# Altium footprint library PcbLib1.PcbLib: 2 footprints
Each footprint in its own frame and in the unit in brackets; x right, y up, seen from the top. Pads: shape width x height; smd on the part's side, far side on the other; paste and mask are expansions set on the pad; w line width, h text height; cw(c..) or ccw(c..) is an arc to the next point about the centre after c.
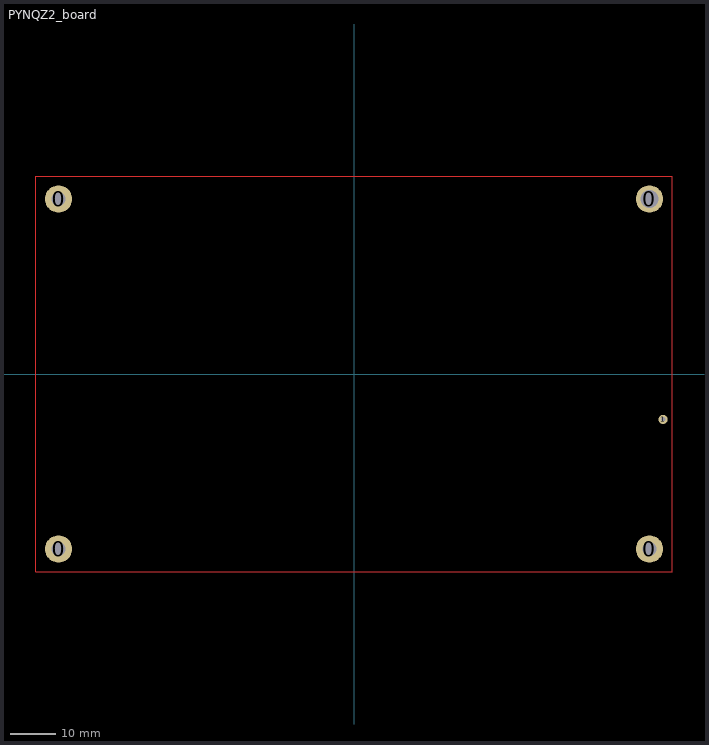
[diagram p0: the footprints below, top view; thin cyan lines are the x and y axes]

## PCBComponent_1 [mm]

## PYNQZ2_board [mm]
pads (5):
  round 6 hole 3: 0(-65,-38.5) 0(-65,38.5) 0(65,-38.5)
  round 6 hole 4: 0(65,38.5)
  round 2 hole 1: 1(68,-10)
Top Layer:
  lines w0.254: -70,-43.5 70,-43.5 70,43.5 -70,43.5 -70,-43.5